# EAGLE library part WRT_NODE (library BaseApp)
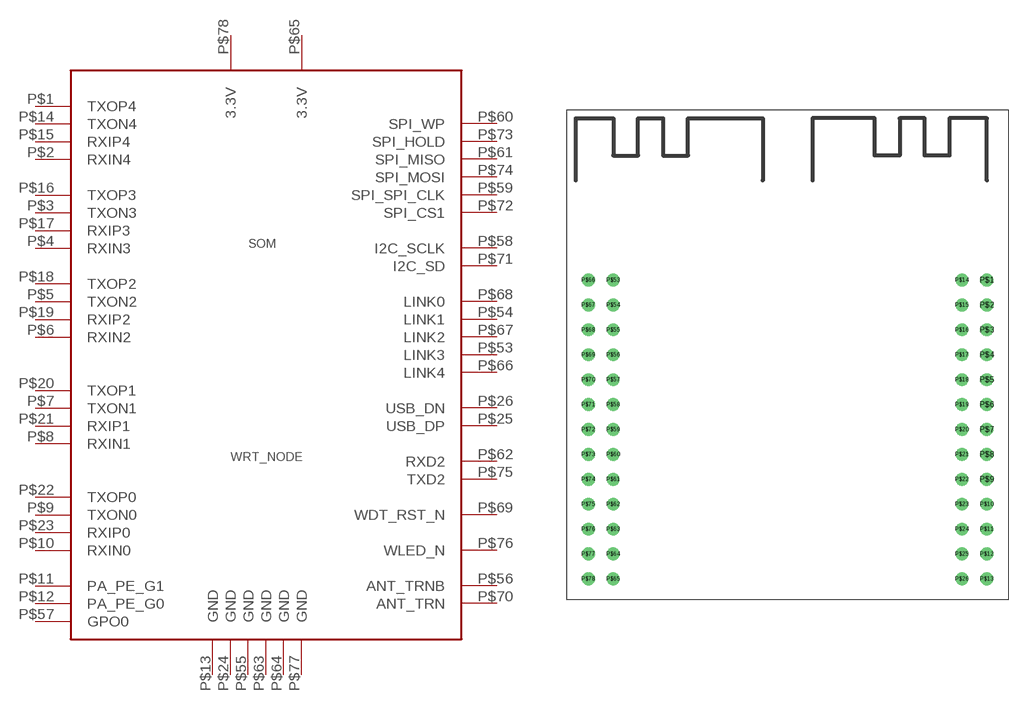
[diagram p144: symbol with the pads of WRT_NODE; footprint WRT_NODE]

Designator prefix SOM

## WRT_NODE (PRICE_PER_UNIT: 25; URL: http://www.seeedstudio.com/depot/preorder-WRTnode-Open-Source-and-Mini-OpenWRT-Dev-Board-p-1980.html?cPath=19_20)  [WRT_NODE]
P$1  TXOP4
P$2  RXIN4
P$3  TXON3
P$4  RXIN3
P$5  TXON2
P$6  RXIN2
P$7  TXON1
P$8  RXIN1
P$9  TXON0
P$10  RXIN0
P$11  PA_PE_G1
P$12  PA_PE_G0
P$13  GND
P$14  TXON4
P$15  RXIP4
P$16  TXOP3
P$17  RXIP3
P$18  TXOP2
P$19  RXIP2
P$20  TXOP1
P$21  RXIP1
P$22  TXOP0
P$23  RXIP0
P$24  GND
P$25  USB_DP
P$26  USB_DN
P$53  LINK3
P$54  LINK1
P$55  GND
P$56  ANT_TRNB
P$57  GPO0
P$58  I2C_SCLK
P$59  SPI_SPI_CLK
P$60  SPI_WP
P$61  SPI_MISO
P$62  RXD2
P$63  GND
P$64  GND
P$65  3.3V
P$66  LINK4
P$67  LINK2
P$68  LINK0
P$69  WDT_RST_N
P$70  ANT_TRN
P$71  I2C_SD
P$72  SPI_CS1
P$73  SPI_HOLD
P$74  SPI_MOSI
P$75  TXD2
P$76  WLED_N
P$77  GND
P$78  3.3V

## Footprint WRT_NODE (pad centres in mm)
drill 0.8: P$1 20.32,7.62; P$2 20.32,5.08; P$3 20.32,2.54; P$4 20.32,0; P$5 20.32,-2.54; P$6 20.32,-5.08; P$7 20.32,-7.62; P$8 20.32,-10.16; P$9 20.32,-12.7; P$10 20.32,-15.24; P$11 20.32,-17.78; P$12 20.32,-20.32; P$13 20.32,-22.86; P$14 17.78,7.62; P$15 17.78,5.08; P$16 17.78,2.54; P$17 17.78,0; P$18 17.78,-2.54; P$19 17.78,-5.08; P$20 17.78,-7.62; P$21 17.78,-10.16; P$22 17.78,-12.7; P$23 17.78,-15.24; P$24 17.78,-17.78; P$25 17.78,-20.32; P$26 17.78,-22.86; P$53 -17.78,7.62; P$54 -17.78,5.08; P$55 -17.78,2.54; P$56 -17.78,0; P$57 -17.78,-2.54; P$58 -17.78,-5.08; P$59 -17.78,-7.62; P$60 -17.78,-10.16; P$61 -17.78,-12.7; P$62 -17.78,-15.24; P$63 -17.78,-17.78; P$64 -17.78,-20.32; P$65 -17.78,-22.86; P$66 -20.32,7.62; P$67 -20.32,5.08; P$68 -20.32,2.54; P$69 -20.32,0; P$70 -20.32,-2.54; P$71 -20.32,-5.08; P$72 -20.32,-7.62; P$73 -20.32,-10.16; P$74 -20.32,-12.7; P$75 -20.32,-15.24; P$76 -20.32,-17.78; P$77 -20.32,-20.32; P$78 -20.32,-22.86